# Altium schematic symbol library IND,4.7uH,80mA,Multilayer,0805.Schlib: 1 symbol
Pins are listed as number, name and electrical type; pins without a type are passive.

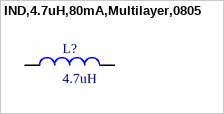
[diagram p0: symbol IND,4.7uH,80mA,Multilayer,0805]

## IND,4.7uH,80mA,Multilayer,0805
designator L?, comment 4.7uH
4.7 µH Shielded Multilayer Inductor 80 mA 300mOhm 0805 (2012 Metric)
pins: 1, 2